# Altium schematic symbol library Switch-SMD-SPST-NO.SchLib: 1 symbol
Pins are listed as number, name and electrical type; pins without a type are passive.

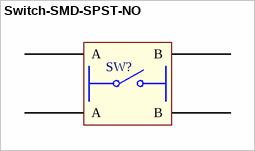
[diagram p0: symbol Switch-SMD-SPST-NO]

## Switch-SMD-SPST-NO
designator SW?  (value not drawn)
pins: 1 A, 2 A, 3 B, 4 B